# Altium footprint library czc.PcbLib: 157 footprints (part 10 of 10)
Each footprint in its own frame and in the unit in brackets; x right, y up, seen from the top. Pads: shape width x height; smd on the part's side, far side on the other; paste and mask are expansions set on the pad; w line width, h text height; cw(c..) or ccw(c..) is an arc to the next point about the centre after c.
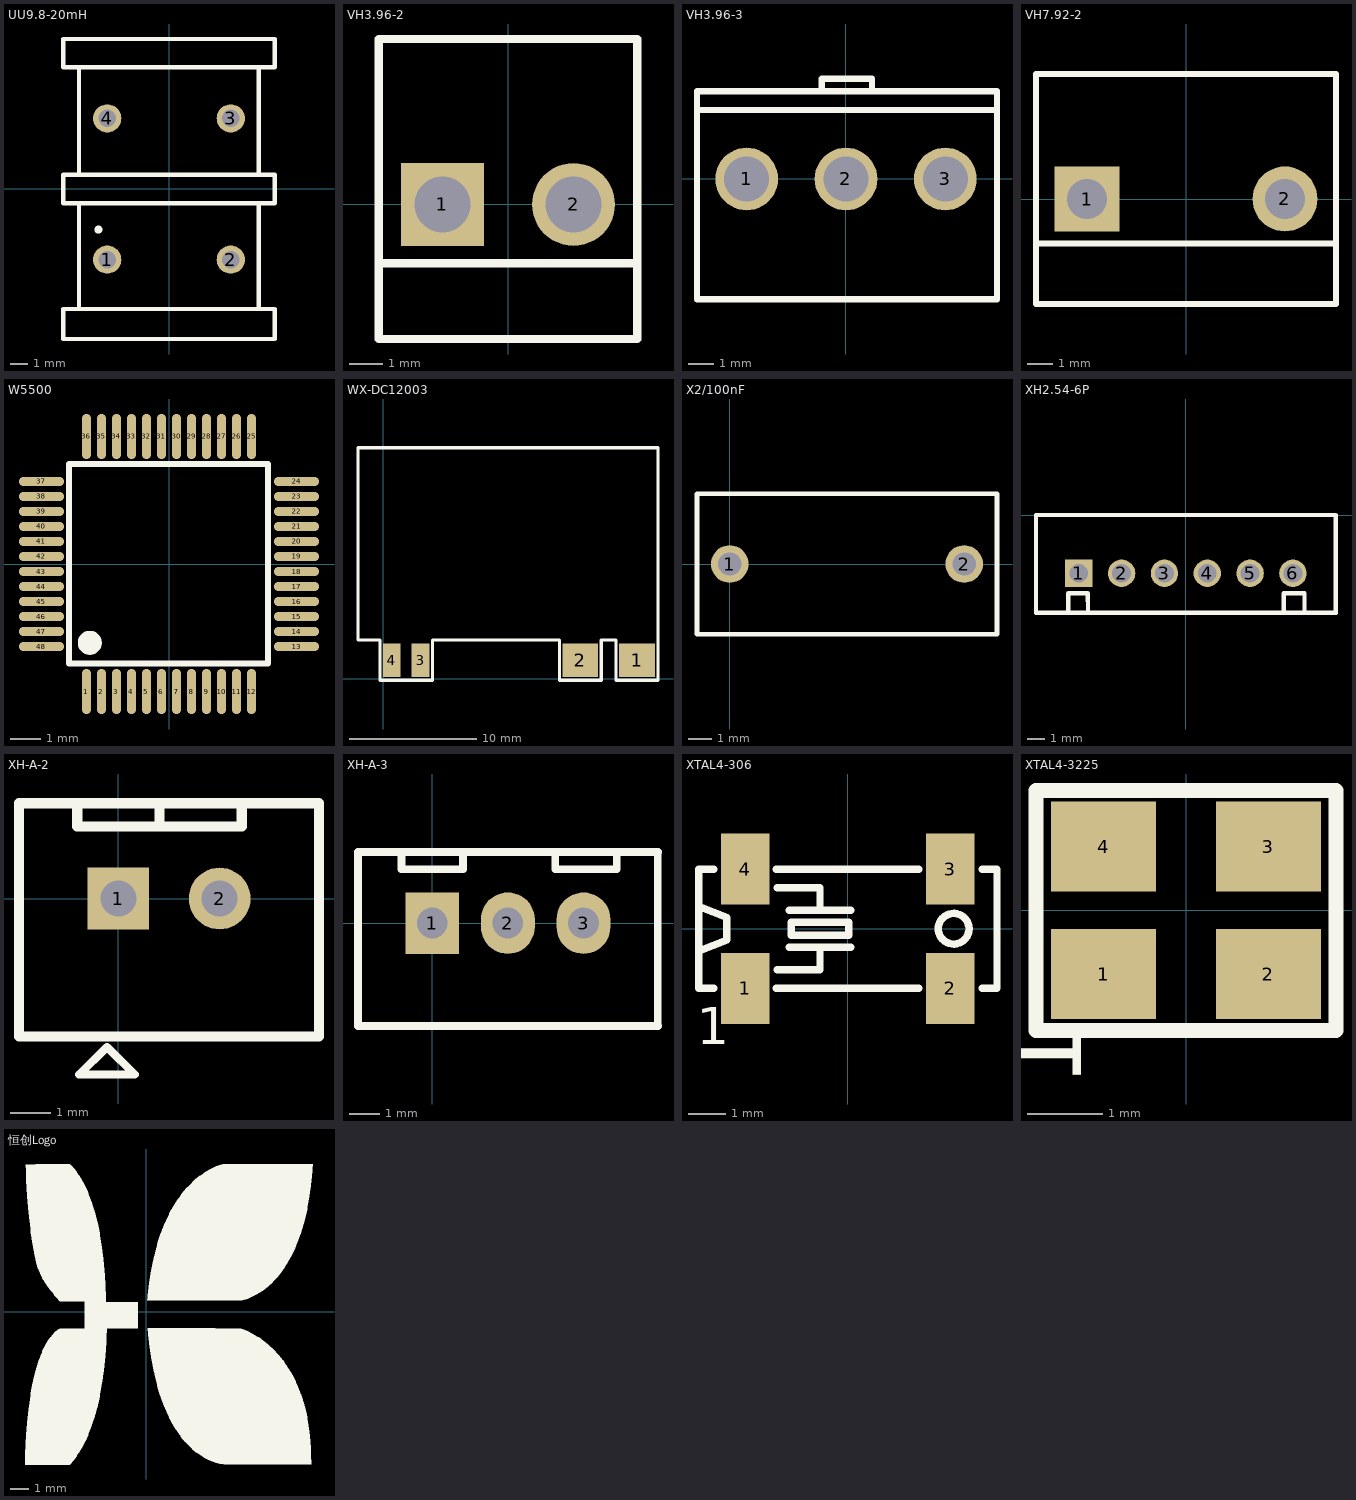
[diagram p9: the footprints below, top view; thin cyan lines are the x and y axes]

## UU9.8-20mH [mm]
pads (4):
  round 1.6 hole 1: 1(-3.5,-4) 2(3.5,-4) 3(3.5,4) 4(-3.5,4)
Top Overlay:
  circle w0.254: c-4,-2.3 r0.1
  lines w0.254: -5.1,-6.8 -5.1,-0.8 ; -5.1,0.9 -5.1,6.9 ; 5.098,-6.798 5.098,-0.798 ; 5.098,0.901 5.098,6.901 ; 6,8.4 6,6.9 -6,6.9 -6,8.5 6,8.5 ; -6,-8.5 -6,-7.2 -6,-6.8 6,-6.8 6,-8.5 -6,-8.5 ; -6,-0.8 -6,0.8 6,0.8 6,-0.8 -6,-0.8

## VH3.96-2 [mm] "2PIN"
pads (2):
  rect 2.5x2.5 hole 1.7: 1(-1.98,0)
  round 2.5 hole 1.7: 2(1.98,0)
Top Overlay:
  lines w0.254: -3.9,-1.78 3.9,-1.78 ; -3.9,-4.064 -3.9,5 3.9,5 3.9,-4.064 -3.9,-4.064

## VH3.96-3 [mm]
pads (3):
  round 2.5 hole 1.8: 1(-3.96,0) 2(0,0) 3(3.96,0)
Top Overlay:
  lines w0.254: -5.94,2.75 6.02,2.75 ; -0.962,3.501 -0.962,4.001 1.038,4.001 1.038,3.501 ; -5.94,-4.8 -5.94,3.5 6.02,3.5 6.02,-4.8 -5.94,-4.8

## VH7.92-2 [mm] "3PIN TO 2PIN"
pads (2):
  rect 2.6x2.6 hole 1.6: 1(-3.96,-0.002)
  round 2.6 hole 1.6: 2(3.96,0.002)
Top Overlay:
  lines w0.254: -6,-1.78 6,-1.78 ; -6,-4.2 -6,5 6,5 6,-4.2 -6,-4.2

## W5500 [mm]
pads (48):
  oval 0.3x1.5 smd: 1(-2.75,-4.25) 2(-2.25,-4.25) 3(-1.75,-4.25) 4(-1.25,-4.25) 5(-0.75,-4.25) 6(-0.25,-4.25) 7(0.25,-4.25) 8(0.75,-4.25) 9(1.25,-4.25) 10(1.75,-4.25) 11(2.25,-4.25) 12(2.75,-4.25) 25(2.75,4.25) 26(2.25,4.25) 27(1.75,4.25) 28(1.25,4.25) 29(0.75,4.25) 30(0.25,4.25) 31(-0.25,4.25) 32(-0.75,4.25) 33(-1.25,4.25) 34(-1.75,4.25) 35(-2.25,4.25) 36(-2.75,4.25)
  oval 1.5x0.3 smd: 13(4.25,-2.75) 14(4.25,-2.25) 15(4.25,-1.75) 16(4.25,-1.25) 17(4.25,-0.75) 18(4.25,-0.25) 19(4.25,0.25) 20(4.25,0.75) 21(4.25,1.25) 22(4.25,1.75) 23(4.25,2.25) 24(4.25,2.75) 37(-4.25,2.75) 38(-4.25,2.25) 39(-4.25,1.75) 40(-4.25,1.25) 41(-4.25,0.75) 42(-4.25,0.25) 43(-4.25,-0.25) 44(-4.25,-0.75) 45(-4.25,-1.25) 46(-4.25,-1.75) 47(-4.25,-2.25) 48(-4.25,-2.75)
Top Overlay:
  lines w0.2: -2.896,3.34 3.302,3.34 3.302,-3.315 -3.327,-3.315 -3.327,3.34 -2.565,3.34
  lines w0.4: -2.642,-2.426 ccw(c-2.64,-2.626) -2.639,-2.426

## WX-DC12003 [mil]
pads (4):
  rect 110x105 smd: 1(785,57) 2(610,57)
  rect 55x105 smd: 3(115,57) 4(26,57)
Top Overlay:
  lines w10: -78.78,119.96 -11,119.96 -11,-5 151.91,-5 151.91,120 545.42,120 545.42,-5 674.46,-5 674.46,119.96 720,119.96 720,-5 850,-5 850,715 -78.78,715 -78.78,120

## X2/100nF [mm] "P=10mm"
pads (2):
  round 1.6 hole 1: 1(0,0) 2(10,0)
Top Overlay:
  lines w0.203: -1.397,-3 11.4,-3 11.4,3 -1.397,3 -1.397,-3

## XH2.54-6P [mm]
pads (6):
  rect 1.6x1.6 hole 1.1: 1(-6.25,-3.4)
  round 1.6 hole 1.1: 2(-3.75,-3.4) 3(-1.25,-3.4) 4(1.25,-3.4) 5(3.75,-3.4) 6(6.25,-3.4)
Top Overlay:
  lines w0.254: -8.75,-5.715 -8.75,0 8.75,0 8.75,-5.715 ; -8.75,-5.7 8.763,-5.7 ; -6.858,-5.588 -6.858,-4.572 -5.728,-4.572 -5.715,-5.588 ; 5.715,-5.576 5.715,-4.572 6.921,-4.572 6.921,-5.576

## XH-A-2 [mil]
pads (2):
  rect 60x60 hole 35: 1(0,0)
  round 60 hole 35: 2(98.42,0)
Top Overlay:
  lines w7.87: -38,-171 16,-171 -11,-144 -38,-171
  lines w10: -96.46,-133.86 -96.46,92.52 ; -93.7,-133.86 194.88,-133.86 194.88,92.52 -93.7,92.52 ; -40,90 -40,70 40,70 ; 120,90 120,70 40,70 ; 40,70 40,90 40,70

## XH-A-3 [mil]
pads (3):
  rect 70x80 hole 40: 1(0,0)
  oval 70x80 hole 40: 2(98.42,0) 3(196.85,0)
Top Overlay:
  lines w10: -96.46,-133.86 -96.46,92.52 ; -93.7,-133.86 293.7,-133.86 ; -93.7,92.52 293.7,92.52 ; -40,90 -40,70 40,70 40,90 ; 160,90 160,70 240,70 240,90 ; 293.31,-133.86 293.31,92.52
3D body "User Library-B3B-XH-A.STEP": height 275.59, standoff -133.86, extent -95,-135 294.76,91.38

## XTAL4-306 [mm]
pads (4):
  rect 1.3x1.9 smd: 1(-2.75,-1.6) 2(2.75,-1.6) 3(2.75,1.6) 4(-2.75,1.6)
Top Overlay:
  circle w0.2: c2.838,0 r0.412
  lines w0.2: -4,-0.6 -3.25,-0.3 -3.25,0.3 -4,0.6 ; -3.6,-1.6 -4,-1.6 -4,1.6 -3.6,1.6 ; -1.925,-1.6 1.9,-1.6 ; -1.925,1.6 1.9,1.6 ; -1.9,-1.1 -0.75,-1.1 -0.75,-0.5 ; -1.9,1.1 -0.75,1.1 -0.75,0.5 ; -1.575,-0.5 0.075,-0.5 ; -1.575,0.5 0.075,0.5 ; 3.6,-1.6 4,-1.6 4,1.6 3.6,1.6 ; -1.525,-0.175 -1.525,0.175 0.025,0.175 0.025,-0.175 -1.525,-0.175
  text "1" at -4.05,-3.1 h1

## XTAL4-3225 [mm]
pads (4):
  rect 1.4x1.2 smd: 1(-1.1,-0.85) 2(1.1,-0.85) 3(1.1,0.85) 4(-1.1,0.85)
Top Overlay:
  lines w0.2: -2,-1.6 2,-1.6 2,1.6 -2,1.6 -2,-1.6
  text "1" at -1.397,-2.362 h1

## 恒创Logo [mm]
Top Overlay:
  drawing of 1194 lines, arcs and shapes, not listed